# Altium schematic symbol library 2SC5964.Schlib: 1 symbol
Pins are listed as number, name and electrical type; pins without a type are passive.

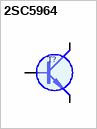
[diagram p0: symbol 2SC5964]

## 2SC5964
designator T?
SOT89     50V 3A 380MHz 13p (2SA2125)
pins: 1 B, 2 C (oc), 3 E (oe)
1 alternate drawing of the same symbol